# Altium footprint library EPSON FC-135.PcbLib: 1 footprints
Each footprint in its own frame and in the unit in brackets; x right, y up, seen from the top. Pads: shape width x height; smd on the part's side, far side on the other; paste and mask are expansions set on the pad; w line width, h text height; cw(c..) or ccw(c..) is an arc to the next point about the centre after c.
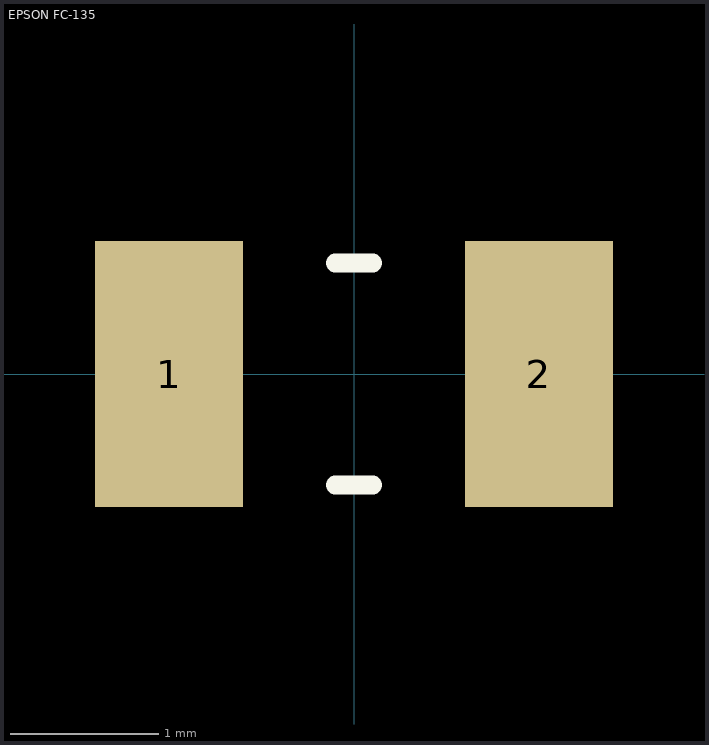
[diagram p0: the footprint, top view; thin cyan lines are the x and y axes]

## EPSON FC-135 [mm]
height 0.55
pads (2):
  rect 1x1.8 smd: 1(-1.25,0) 2(1.25,0)
Top Overlay:
  lines w0.127: -0.127,-0.75 0.127,-0.75 ; -0.127,0.75 0.127,0.75
3D body "User Library-Crystal FC-135.STEP": height 0.8, standoff 0, extent -1.606,-0.744 1.594,0.756